# EAGLE library part 87832-10 (library miifitjr2)
Milli-Grid Header 2.00mm (.079") Pitch
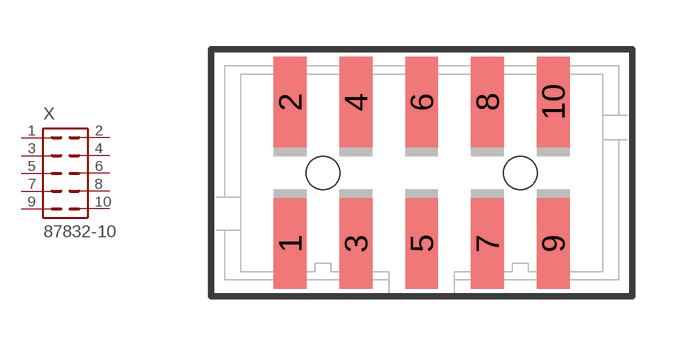
[diagram p33: symbol with the pads of 87832-10; footprint 87832-10]

Designator prefix X

## 87832-10 (MF: MOLEX; OC_FARNELL: unknown; OC_NEWARK: unknown)  [87832-10]
1  1  pas
2  2  pas
3  3  pas
4  4  pas
5  5  pas
6  6  pas
7  7  pas
8  8  pas
9  9  pas
10  10  pas

## Footprint 87832-10 (pad centres in mm)
Milli-Grid™ Header, Surface Mount, Vertical, Shrouded, Lead-Free, 10 Circuits, 0.76µm Gold (Au) Plating, without Locking Window, with Centre Polarization Slot, PCB Locator, Tube Datasheet <http://www.molex.com/pdm_docs/sd/878321021_sd.pdf>
smd 1 x 2.75: 1 -4,-2.15; 2 -4,2.15; 3 -2,-2.15; 4 -2,2.15; 5 0,-2.15; 6 0,2.15; 7 2,-2.15; 8 2,2.15; 9 4,-2.15; 10 4,2.15
hole 1 at -3,0
hole 1 at 3,0